# EAGLE library part BASICATOMPRO24 (library basicmicro)
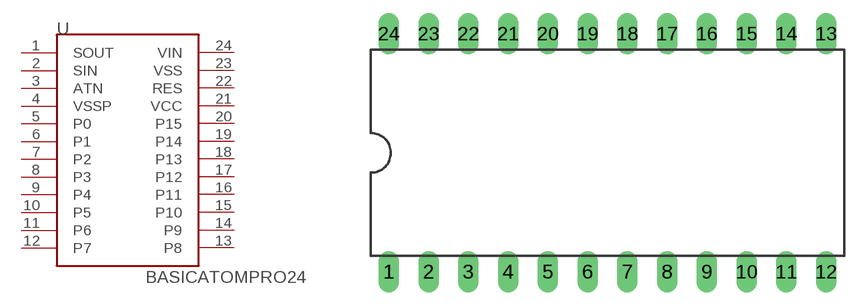
[diagram p2: symbol with the pads of DIP24; footprint DIP24]

Designator prefix -

## BASICATOMPRO24  [DIP24]
1  SOUT
2  SIN
3  ATN
4  VSSP
5  P0
6  P1
7  P2
8  P3
9  P4
10  P5
11  P6
12  P7
13  P8
14  P9
15  P10
16  P11
17  P12
18  P13
19  P14
20  P15
21  VCC  pwr
22  RES  pwr
23  VSS  pwr
24  VIN  pwr

## Footprint DIP24 (pad centres in mm)
drill 0.813 long: 1 -13.97,-7.62; 2 -11.43,-7.62; 3 -8.89,-7.62; 4 -6.35,-7.62; 5 -3.81,-7.62; 6 -1.27,-7.62; 7 1.27,-7.62; 8 3.81,-7.62; 9 6.35,-7.62; 10 8.89,-7.62; 11 11.43,-7.62; 12 13.97,-7.62; 13 13.97,7.62; 14 11.43,7.62; 15 8.89,7.62; 16 6.35,7.62; 17 3.81,7.62; 18 1.27,7.62; 19 -1.27,7.62; 20 -3.81,7.62; 21 -6.35,7.62; 22 -8.89,7.62; 23 -11.43,7.62; 24 -13.97,7.62